# Altium footprint library 我的PCB.PcbLib: 347 footprints (part 1 of 22)
Each footprint in its own frame and in the unit in brackets; x right, y up, seen from the top. Pads: shape width x height; smd on the part's side, far side on the other; paste and mask are expansions set on the pad; w line width, h text height; cw(c..) or ccw(c..) is an arc to the next point about the centre after c.
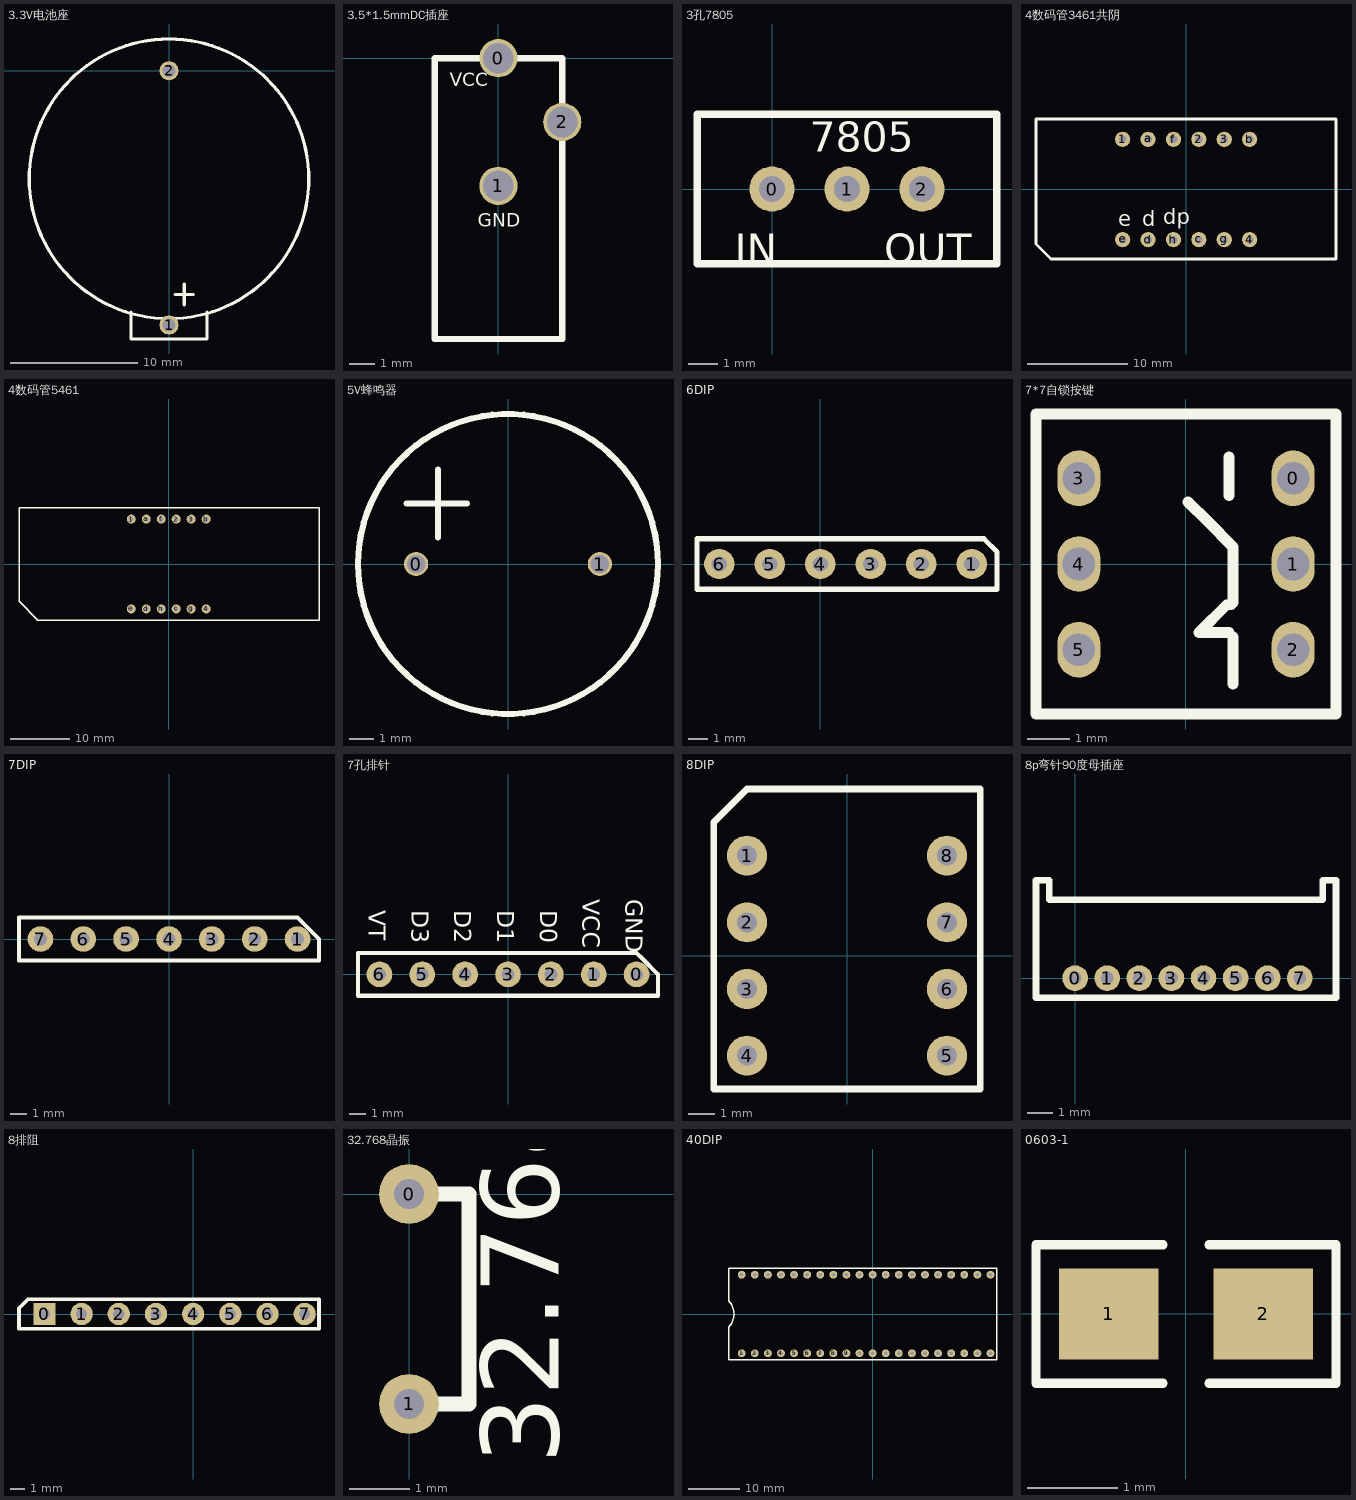
[diagram p0: the footprints below, top view; thin cyan lines are the x and y axes]

## 3.3V电池座 [mm]
pads (2):
  round 1.5 hole 1: 1(0,-20) 2(0,0)
Top Overlay:
  circle w0.254: c0,-8.5 r11
  lines w0.254: -3,-19 -3,-21.1 3,-21.1 3,-19 ; 0.5,-17.6 1.9,-17.6 ; 1.2,-18.4 1.2,-16.8

## 3.5*1.5mmDC插座 [mm]
pads (3):
  round 1.5 hole 1.2: 0(0,0) 1(0,-5) 2(2.5,-2.5)
Top Overlay:
  lines w0.254: -2.5,-11 2.5,-11 2.5,0 -2.5,0 -2.5,-11
  text "GND" at -0.8,-6.6 h0.52
  text "VCC" at -1.9,-1.1 h0.52

## 3孔7805 [mil]
pads (3):
  round 60 hole 35: 0(0,0) 1(100,0) 2(200,0)
Top Overlay:
  lines w10: -100,-100 -100,100 300,100 300,-100 -100,-100
  text "7805" at 50,50 h40
  text "OUT" at 150,-100 h40
  text "IN" at -50,-100 h40

## 4数码管3461共阴 [mil]
pads (12):
  round 60 hole 30: 1(-250,197.5) 2(50,197.5) 3(150,197.5) 4(250,-197.5) a(-150,197.5) b(250,197.5) c(50,-197.5) d(-150,-197.5) e(-250,-197.5) f(-50,197.5) g(150,-197.5) h(-50,-197.5)
Top Overlay:
  lines w10: -591.1,-214.63 -532.05,-273.68 590,-273.68 590,277.5 -591.1,277.5 -591.1,-214.63
  text "e" at -267.72,-145.67 h60
  text "d" at -173.23,-145.67 h60
  text "dp" at -90.55,-137.8 h60

## 4数码管5461 [mil]
pads (12):
  round 60 hole 30: 1(-250,300) 2(50,300) 3(150,300) 4(250,-300) a(-150,300) b(250,300) c(50,-300) d(-150,-300) e(-250,-300) f(-50,300) g(150,-300) h(-50,-300)
Top Overlay:
  lines w10: -1000,-250 -1000,375 1003.94,375 1003.94,-375 -875,-375 -1000,-250

## 5V蜂鸣器 [mm]
pads (2):
  round 1 hole 0.762: 0(-3.8,0) 1(3.8,0)
Top Overlay:
  circle w0.254: c0,0 r6.2
  lines w0.254: -4.2,2.5 -1.7,2.5 ; -2.9,1.1 -2.9,3.9

## 6DIP [mil]
pads (6):
  round 60 hole 30: 1(300,0) 2(200,0) 3(100,0) 4(0,0) 5(-100,0) 6(-200,0)
Top Overlay:
  lines w10: -244.09,-50 350,-50 350,24.02 324.02,50 -244.09,50 -244.09,-50

## 7*7自锁按键 [mm]
pads (6):
  oval 1x1.3 hole 0.762: 0(2.5,2) 1(2.5,0) 2(2.5,-2) 3(-2.5,2) 4(-2.5,0) 5(-2.5,-2)
Top Overlay:
  lines w0.254: 0.05,1.45 0.5,1 1.1,0.4 1.1,-0.9 1.05,-0.95 0.95,-0.95 0.3,-1.6 1,-1.6 ; 1,1.6 1,1.7 1,2.5 ; 1.1,-2.8 1.1,-1.7 ; -3.5,-3.5 -3.5,3.5 3.5,3.5 3.5,-3.5 -3.5,-3.5
3D body: height 3, standoff 0, extent -3.5,-3.4 3.5,3.5
3D body: height 5, standoff 3, extent -1.9,-2.4 1.9,2.6

## 7DIP [mil]
pads (7):
  round 60 hole 30: 1(300,0) 2(200,0) 3(100,0) 4(0,0) 5(-100,0) 6(-200,0) 7(-300,0)
Top Overlay:
  lines w10: -350,-50 -350,50 300,50 312.5,37.5 350,0 350,-50 -350,-50

## 7孔排针 [mil]
pads (7):
  round 60 hole 30: 0(300,0) 1(200,0) 2(100,0) 3(0,0) 4(-100,0) 5(-200,0) 6(-300,0)
Top Overlay:
  lines w10: -350,-50 -350,50 300,50 312.5,37.5 350,0 350,-50 -350,-50
  text "GND" at 275,175 h40
  text "VCC" at 175,175 h40
  text "D0" at 75,150 h40
  text "D1" at -25,150 h40
  text "D2" at -125,150 h40
  text "D3" at -225,150 h40
  text "VT" at -325,150 h40

## 8DIP [mil]
pads (8):
  round 60 hole 30: 1(-150,150) 2(-150,50) 3(-150,-50) 4(-150,-150) 5(150,-150) 6(150,-50) 7(150,50) 8(150,150)
Top Overlay:
  lines w10: -200,-200 -200,200 -150,250 200,250 200,-200 -200,-200

## 8p弯针90度母插座 [mm]
pads (8):
  round 1 hole 0.5: 0(0,0) 1(1.25,0) 2(2.5,0) 3(3.75,0) 4(5,0) 5(6.25,0) 6(7.5,0) 7(8.75,0)
Top Overlay:
  lines w0.254: 10.16,-0.762 10.16,3.81 ; 10.16,-0.762 -1.524,-0.762 -1.524,3.81 -1.016,3.81 -1.016,3.048 9.652,3.048 9.652,3.81 10.16,3.81 ; 10.16,-0.762 10.16,3.81

## 8排阻 [mil]
pads (8):
  rect 60x60 hole 30: 0(-400,0)
  round 60 hole 30: 1(-300,0) 2(-200,0) 3(-100,0) 4(0,0) 5(100,0) 6(200,0) 7(300,0)
Top Overlay:
  lines w10: -468.5,-39.37 338.58,-39.37 338.58,39.37 -444.88,39.37 -468.5,15.75 -468.5,-39.37

## 32.768晶振 [mm]
pads (2):
  round 1 hole 0.5: 0(0,0) 1(0,-3.5)
Top Overlay:
  lines w0.254: 0,-3.5 1,-3.5 1,0 0,0
  text "32.768" at 2.5,-4.5 h1.3
3D body: height 8.3, standoff 0, extent -1.4,-3.2 1.588,-0.206

## 40DIP [mil]
pads (40):
  round 60 hole 30: 1(-1000,-300) 2(-900,-300) 3(-800,-300) 4(-700,-300) 5(-600,-300) 6(-500,-300) 7(-400,-300) 8(-300,-300) 9(-200,-300) 10(-100,-300) 11(0,-300) 12(100,-300) 13(200,-300) 14(300,-300) 15(400,-300) 16(500,-300) 17(600,-300) 18(700,-300) 19(800,-300) 20(900,-300) 21(900,300) 22(800,300) 23(700,300) 24(600,300) 25(500,300) 26(400,300) 27(300,300) 28(200,300) 29(100,300) 30(0,300) 31(-100,300) 32(-200,300) 33(-300,300) 34(-400,300) 35(-500,300) 36(-600,300) 37(-700,300) 38(-800,300) 39(-900,300) 40(-1000,300)
Top Overlay:
  lines w10: -1100,-350 950,-350 950,350 -1100,350 -1100,100 cw(c-1200,0) -1100,-100 -1100,-350

## 0603-1 [mm] "贴片带丝印"
height 0.6
pads (2):
  rect 1.1x1 smd: 1(-0.85,0) 2(0.85,0)
Top Overlay:
  lines w0.1: -0.254,-0.762 -1.651,-0.762 -1.651,0.762 -0.254,0.762 ; 0.254,-0.762 1.651,-0.762 1.651,0.762 0.254,0.762
3D body: height 1, standoff 0, extent -1.143,-0.381 1.143,0.381